# EAGLE library part SN65HVD3088EDGK (library lcs-2000)
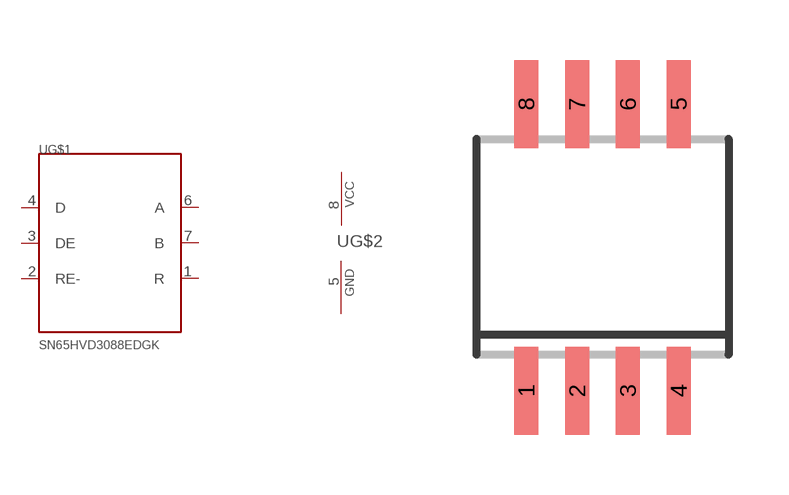
[diagram p2: symbol with the pads of MSOP-8; footprint MSOP-8]

Designator prefix -; gates G$1=SN65HVD3088 G$2=PWRN

## SN65HVD3088EDGK  [MSOP-8]
1  G$1:R
2  G$1:RE-
3  G$1:DE
4  G$1:D
5  G$2:GND  pwr
6  G$1:A
7  G$1:B
8  G$2:VCC  pwr

## Footprint MSOP-8 (pad centres in mm)
smd 0.6 x 2.2: 1 -1.905,-3.6; 2 -0.635,-3.6; 3 0.635,-3.6; 4 1.905,-3.6; 5 1.905,3.575; 6 0.635,3.575; 7 -0.635,3.575; 8 -1.905,3.575